# Altium schematic symbol library TESTPOINT_NO_BOM.SchLib: 1 symbol
Pins are listed as number, name and electrical type; pins without a type are passive.

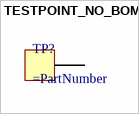
[diagram p0: symbol TESTPOINT_NO_BOM]

## TESTPOINT_NO_BOM
designator TP?  (no BOM)
pins: 1